# Altium footprint library res.PcbLib: 3 footprints
Each footprint in its own frame and in the unit in brackets; x right, y up, seen from the top. Pads: shape width x height; smd on the part's side, far side on the other; paste and mask are expansions set on the pad; w line width, h text height; cw(c..) or ccw(c..) is an arc to the next point about the centre after c.
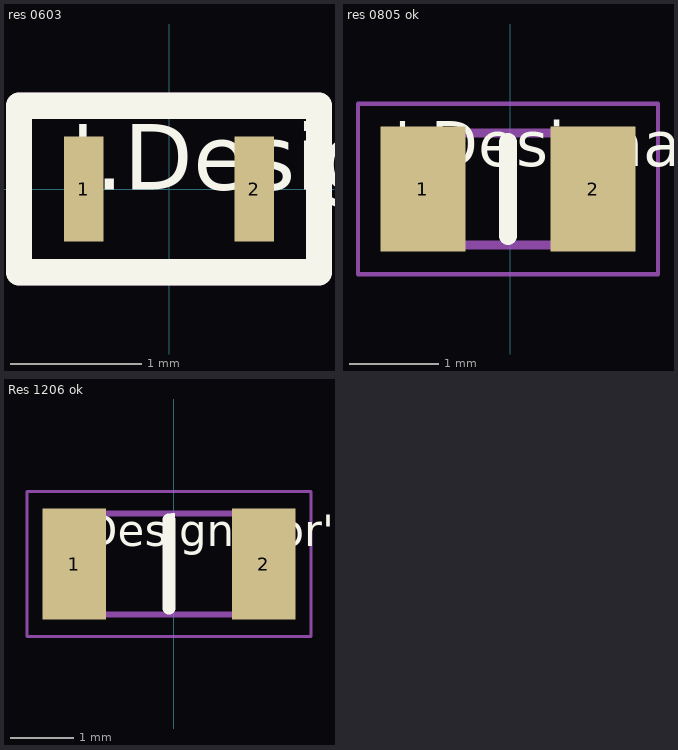
[diagram p0: the footprints below, top view; thin cyan lines are the x and y axes]

## res 0603 [mm]
pads (2):
  rect 0.3x0.8 smd: 1(-0.65,0) 2(0.65,0)
Top Overlay:
  lines w0.2: -1.143,-0.635 1.143,-0.635 1.143,0.635 -1.143,0.635 -1.143,-0.635
  text "'.Designator'-" at -0.75,-0.007 h0.5
Mechanical 29 (Mech29):
  lines w0.2: -1.143,-0.635 -1.143,0.635 1.143,0.635 1.143,-0.635 -1.143,-0.635
3D body "res0603.stp": height 0.45, standoff 0, extent -0.75,-0.432 0.8,0.418

## res 0805 ok [mm]
pads (2):
  rect 0.95x1.4 smd: 1(-0.975,-2.21) 2(0.925,-2.21)
Top Overlay:
  lines w0.2: -0.025,-2.735 -0.025,-1.685
  text "'.Designator'-" at -1.295,-1.956 h0.5
Mechanical 13:
  lines w0.1: -1.025,-2.835 0.975,-2.835 0.975,-1.585 -1.025,-1.585 -1.025,-2.835
Mechanical 15:
  lines w0.05: -1.7,-3.16 1.65,-3.16 1.65,-1.26 -1.7,-1.26 -1.7,-3.16
3D body "RC0805FR-0710KL.stp": height 0.6, standoff 0, extent -1.025,-2.835 0.975,-1.585

## Res 1206 ok [mm]
pads (2):
  rect 1x1.75 smd: 1(-1.576,-2.769) 2(1.424,-2.769)
Top Overlay:
  lines w0.2: -0.076,-3.469 -0.076,-2.069
  text "'.Designator'-" at -1.829,-2.489 h0.5
Mechanical 13:
  lines w0.1: -1.626,-3.569 1.474,-3.569 1.474,-1.969 -1.626,-1.969 -1.626,-3.569
Mechanical 15:
  lines w0.05: -2.326,-3.919 2.174,-3.919 2.174,-1.619 -2.326,-1.619 -2.326,-3.919
3D body "RC1206JR-0768KL.stp": height 0.65, standoff 0, extent -1.626,-3.569 1.474,-1.969